# EAGLE library part ATSAMD1*D14A* (library maxorig)
ATSAMD11D14A-* - 32bit low-power Cortex M0+ microcontroller This part is for the 20 pin count pieces in the SAMD10 and SAMD11 series of low-power microcontrollers. The SAMD11 series adds USB to SAMD10 series. Includes Atmel's configurable serial interfaces (SERCOMs) which can be configured to be a UART, I2C, LIN, or SPI. Technical specifications: VCC: 1.62-3.63V Core frequency up to 48MHz Program flash: 16kb RAM: 4kb SERCOMS: 3 GPIOs: 18 ADC channels: 8 ADC resolution: 12 bits DACs: 1
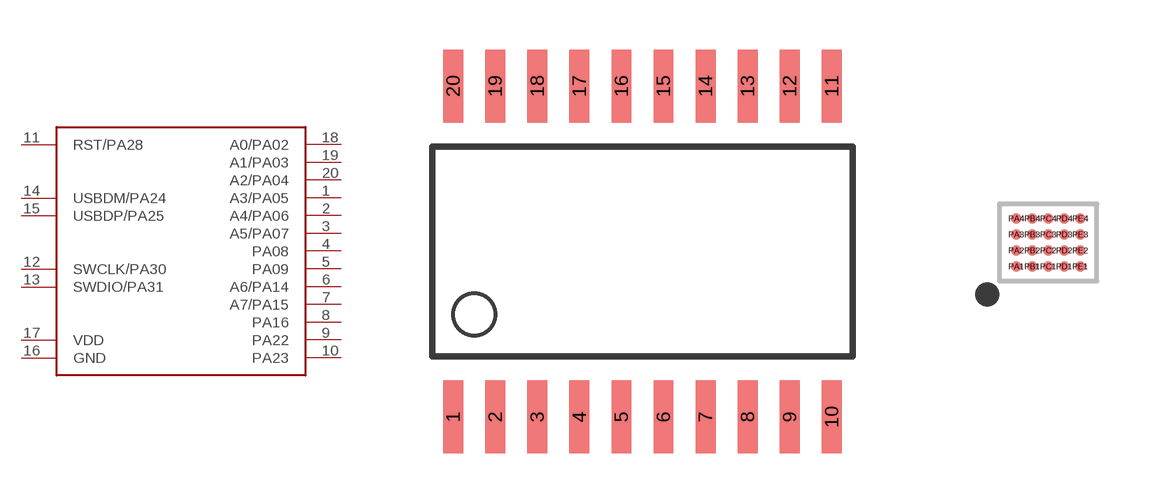
[diagram p19: symbol with the pads of SOIC-20W; footprints SOIC-20W, WLCSP-20]

Designator prefix -

## ATSAMD1D14A-SS  [SOIC-20W]
1  A3/PA05
2  A4/PA06
3  A5/PA07
4  PA08
5  PA09
6  A6/PA14
7  A7/PA15
8  PA16
9  PA22
10  PA23
11  RST/PA28
12  SWCLK/PA30
13  SWDIO/PA31
14  USBDM/PA24
15  USBDP/PA25
16  GND
17  VDD
18  A0/PA02
19  A1/PA03
20  A2/PA04

## ATSAMD1D14A-U  [WLCSP-20]
PA1  A0/PA02
PA2  A1/PA03
PA3  A2/PA04
PA4  A4/PA06
PB1  VDD
PB2  A3/PA05
PB3  A5/PA07
PB4  PA08
PC1  USBDP/PA25
PC2  GND
PC3  PA16
PC4  PA09
PD1  USBDM/PA24
PD2  SWCLK/PA30
PD3  PA23
PD4  A6/PA14
PE1  SWDIO/PA31
PE2  RST/PA28
PE3  PA22
PE4  A7/PA15

## Footprint SOIC-20W (pad centres in mm)
SMALL OUTLINE PACKAGE
smd 0.6 x 2.2: 1 -5.715,-5; 2 -4.445,-5; 3 -3.175,-5; 4 -1.905,-5; 5 -0.635,-5; 6 0.635,-5; 7 1.905,-5; 8 3.175,-5; 9 4.445,-5; 10 5.715,-5; 11 5.715,5; 12 4.445,5; 13 3.175,5; 14 1.905,5; 15 0.635,5; 16 -0.635,5; 17 -1.905,5; 18 -3.175,5; 19 -4.445,5; 20 -5.715,5

## Footprint WLCSP-20 (pad centres in mm)
smd 0.26 x 0.26: PA1 -0.8,-0.6; PA2 -0.8,-0.2; PA3 -0.8,0.2; PA4 -0.8,0.6; PB1 -0.4,-0.6; PB2 -0.4,-0.2; PB3 -0.4,0.2; PB4 -0.4,0.6; PC1 0,-0.6; PC2 0,-0.2; PC3 0,0.2; PC4 0,0.6; PD1 0.4,-0.6; PD2 0.4,-0.2; PD3 0.4,0.2; PD4 0.4,0.6; PE1 0.8,-0.6; PE2 0.8,-0.2; PE3 0.8,0.2; PE4 0.8,0.6